# Altium footprint library Murata_Capacitors.PcbLib: 5 footprints
Each footprint in its own frame and in the unit in brackets; x right, y up, seen from the top. Pads: shape width x height; smd on the part's side, far side on the other; paste and mask are expansions set on the pad; w line width, h text height; cw(c..) or ccw(c..) is an arc to the next point about the centre after c.
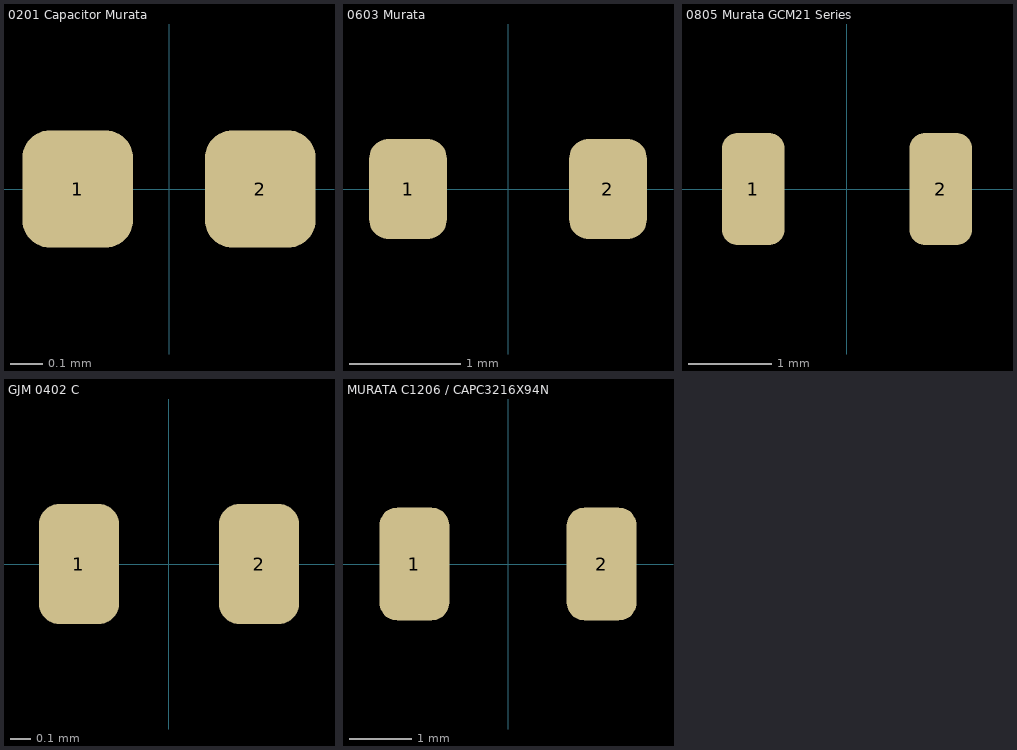
[diagram p0: the footprints below, top view; thin cyan lines are the x and y axes]

## 0201 Capacitor Murata [mm] "0201 Capacitor Murata"
pads (2):
  rrect50% 0.34x0.36 smd: 1(-0.28,0) 2(0.28,0)
3D body "SMD Ceramic Capacitors_0201 (0603)_AB.x_t": height 0.3, standoff 0, extent -0.3,-0.15 0.3,0.15

## 0603 Murata [mm] "IPC Medium Density"
height 0.8
pads (2):
  rrect50% 0.7x0.9 smd: 1(-0.9,0) 2(0.9,0)
3D body "CAP0603.stp": height 0.3, standoff 0, extent -0.8,-0.4 0.8,0.4

## 0805 Murata GCM21 Series [mm] "Chip Capacitor, 2-Leads, Body 2.0x1.2mm, IPC Medium Density"
height 1.25
pads (2):
  rrect50% 0.75x1.35 smd: 1(-1.125,0) 2(1.125,0)
3D body "CAP0805.stp": height 0.78, standoff 0, extent -1,-0.625 1,0.625

## GJM 0402 C [mm] "IPC Medium Density"
height 0.5
pads (2):
  rrect50% 0.4x0.6 smd: 1(-0.45,0) 2(0.45,0)
3D body "CAP0402.stp": height 0.2, standoff 0, extent -0.5,-0.3 0.5,0.3

## MURATA C1206 / CAPC3216X94N [mil] "MURATA CAPC3216X94N"
pads (2):
  rrect50% 44x71 smd: 1(-59,0) 2(59,0)
3D body "CAPC3216X10.STEP": height 39.37, standoff 0, extent -62.99,-31.49 63,31.5